# Altium schematic symbol library THS4509.SchLib: 1 symbol
Pins are listed as number, name and electrical type; pins without a type are passive.

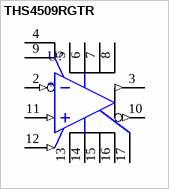
[diagram p0: symbol THS4509RGTR]

## THS4509RGTR
designator U?
THS4509 Wideband, Low-Noise, Low-Distortion, Fully-Differential Amplifier; PartNumber: THS4509RGTR; Alternate_PartNumber: THS4509RGTT; Manufacturer: Texas Instruments; CompType: IC; PIN_COUNT: 17; PackageReference: RGT0016A; MountType: SMT; RoHS: Y; RefDes: RefDes; TYPE: TYPE; Value: Value
footprint RGT0016A
pins: 2 VIN- (in), 3 VOUT+ (out), 4 CM (power), 5 VS+ (power), 6 VS+ (power), 7 VS+ (power), 8 VS+ (power), 9 CM (power), 10 VOUT- (out), 11 VIN+ (in), 12 PD_N (in), 13 VS- (power), 14 VS- (power), 15 VS- (power), 16 VS- (power), 17 EP (power)